# Altium integrated library SP3012-06UTG.IntLib: 1 symbol
Pins are listed as number, name and electrical type; pins without a type are passive.

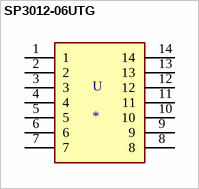
[diagram p0: symbol SP3012-06UTG]

## SP3012-06UTG
designator U
7V _Typ_ Clamp 4A _8/20Âµs_ Ipp Tvs Diode Surface Mount 14-UDFN _3.5x1.35_; MP: SP3012-06UTG; MF: Littelfuse Inc.; Price: None; Availability: Unavailable; Package: UDFN-14 Littelfuse; SnapEDA_Link: https://www.snapeda.com/parts/SP3012-06UTG/Littelfuse%20Inc./view-part/481186/?ref=snap; Value: *
footprint SON50P350X135X55-14N
pins: 1, 2, 3, 4, 5, 6, 7, 8, 9, 10, 11, 12, 13, 14